# Altium footprint library Capacitors_imp.PCBLIB: 52 footprints (part 2 of 4)
Each footprint in its own frame and in the unit in brackets; x right, y up, seen from the top. Pads: shape width x height; smd on the part's side, far side on the other; paste and mask are expansions set on the pad; w line width, h text height; cw(c..) or ccw(c..) is an arc to the next point about the centre after c.
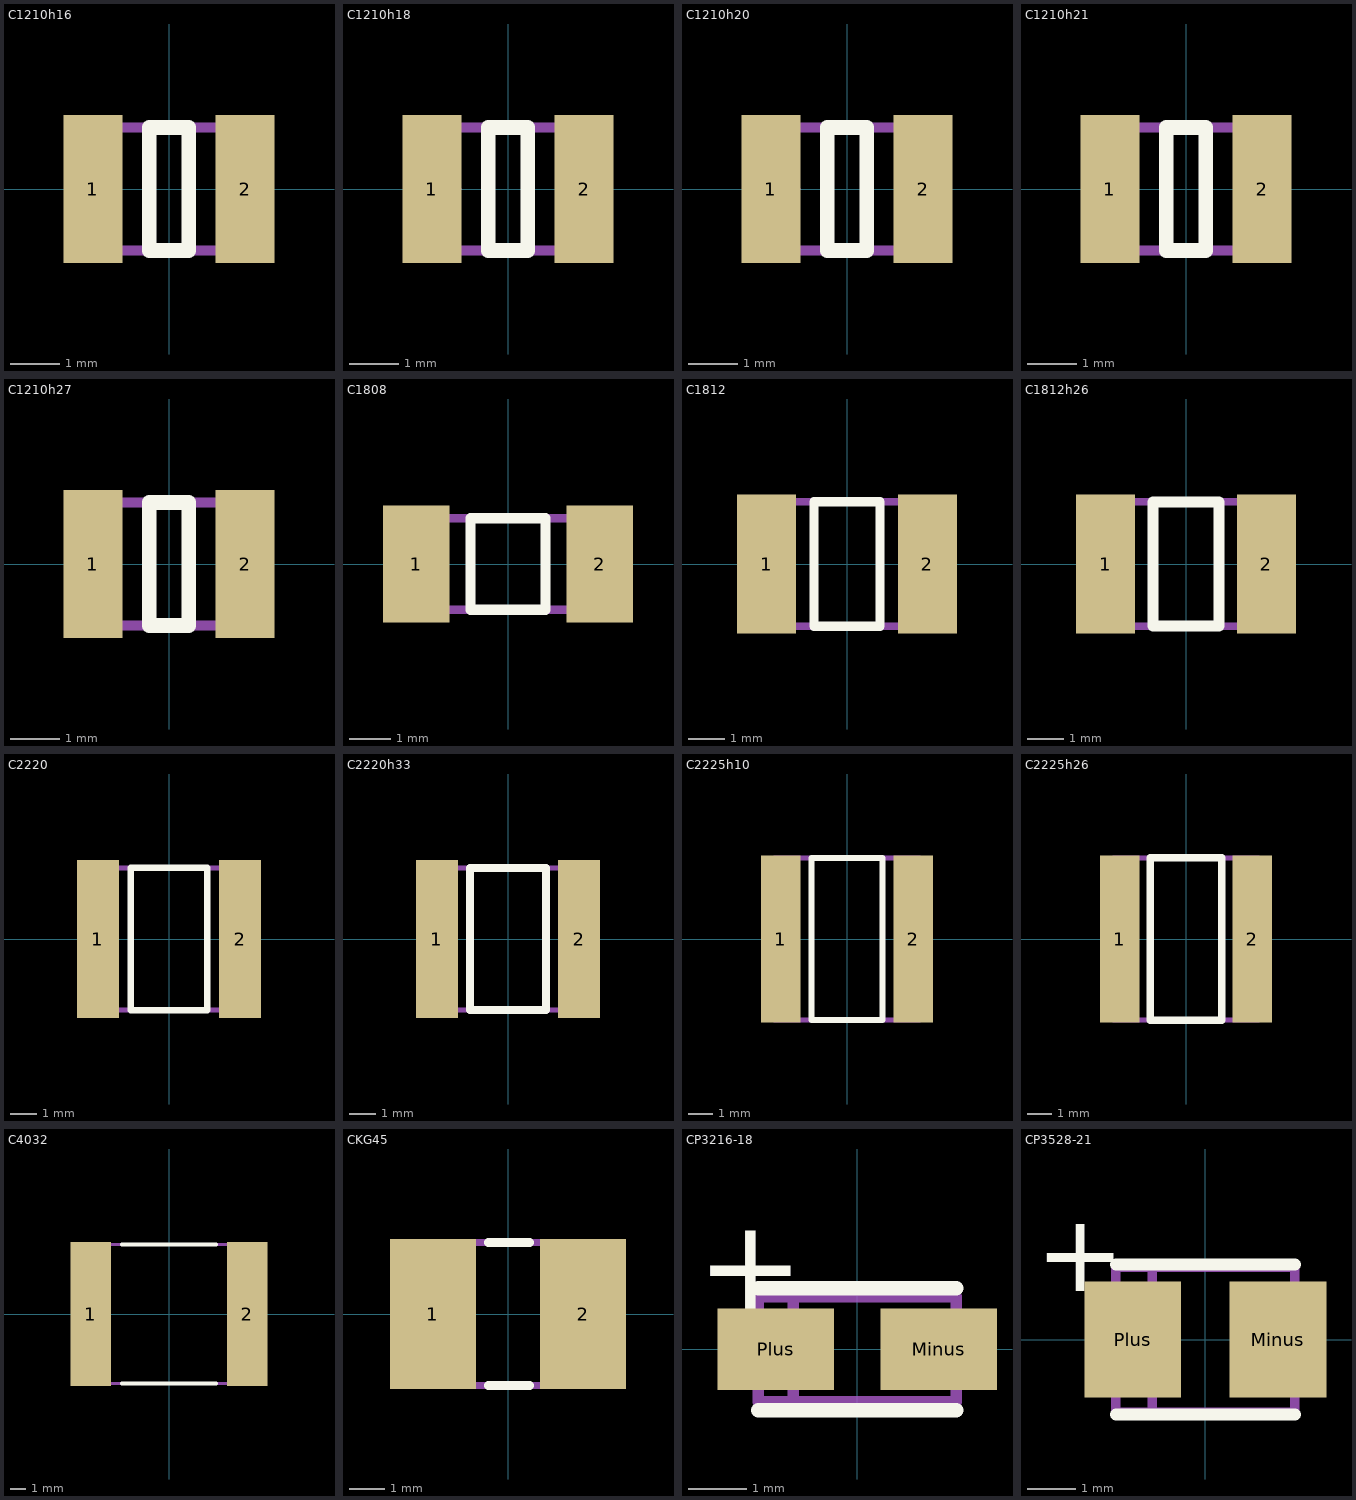
[diagram p1: the footprints below, top view; thin cyan lines are the x and y axes]

## C1210h16 [mm]
height 1.6
pads (2):
  rect 1.2x3 smd: 1(-1.55,0) 2(1.55,0)
Top Overlay:
  lines w0.3: -0.4,-1.25 0.4,-1.25 0.4,1.25 -0.4,1.25 -0.4,-1.25
Mechanical 1:
  circle w0.1: c-1.15,0 r0.1
  lines w0.2: -1.6,-1.25 1.6,-1.25 1.6,1.25 -1.6,1.25 -1.6,-1.25
  text ".Designator" at -1.22,-0.4 h1.5
3D body: height 1.6, standoff 0, extent -1.675,-1.325 1.675,1.325

## C1210h18 [mm]
height 1.8
pads (2):
  rect 1.2x3 smd: 1(-1.55,0) 2(1.55,0)
Top Overlay:
  lines w0.3: -0.4,-1.25 -0.4,1.25 0.4,1.25 0.4,-1.25 -0.4,-1.25
Mechanical 1:
  circle w0.1: c-1.1,0 r0.1
  lines w0.2: -1.6,-1.25 -1.6,1.25 1.6,1.25 1.6,-1.25 -1.6,-1.25
  text ".Designator" at -0.87,-0.4 h1.5
3D body: height 1.8, standoff 0, extent -1.675,-1.325 1.675,1.325

## C1210h20 [mm]
height 2
pads (2):
  rect 1.2x3 smd: 1(-1.55,0) 2(1.55,0)
Top Overlay:
  lines w0.3: -0.4,-1.25 -0.4,1.25 0.4,1.25 0.4,-1.25 -0.4,-1.25
Mechanical 1:
  circle w0.1: c-1.1,0 r0.1
  lines w0.2: -1.6,-1.25 -1.6,1.25 1.6,1.25 1.6,-1.25 -1.6,-1.25
  text ".Designator" at -0.87,-0.4 h1.5
3D body: height 2.1, standoff 0, extent -1.675,-1.325 1.675,1.325

## C1210h21 [mm]
height 2.1
pads (2):
  rect 1.2x3 smd: 1(-1.55,0) 2(1.55,0)
Top Overlay:
  lines w0.3: -0.4,-1.25 0.4,-1.25 0.4,1.25 -0.4,1.25 -0.4,-1.25
Mechanical 1:
  circle w0.1: c-1.15,0 r0.1
  lines w0.2: -1.6,-1.25 1.6,-1.25 1.6,1.25 -1.6,1.25 -1.6,-1.25
  text ".Designator" at -1.22,-0.4 h1.5
3D body: height 2.1, standoff 0, extent -1.675,-1.325 1.675,1.325

## C1210h27 [mm]
height 2.7
pads (2):
  rect 1.2x3 smd: 1(-1.55,0) 2(1.55,0)
Top Overlay:
  lines w0.3: -0.4,-1.25 -0.4,1.25 0.4,1.25 0.4,-1.25 -0.4,-1.25
Mechanical 1:
  circle w0.1: c-1.15,0 r0.1
  lines w0.2: -1.6,-1.25 -1.6,1.25 1.6,1.25 1.6,-1.25 -1.6,-1.25
  text ".Designator" at -1.22,-0.4 h1.5
3D body: height 2.7, standoff 0, extent -1.675,-1.325 1.675,1.325

## C1808 [mm]
height 1.8
pads (2):
  rect 1.6x2.8 smd: 1(-2.2,0) 2(2.2,0)
Top Overlay:
  lines w0.25: -0.9,-1.1 -0.9,1.1 0.9,1.1 0.9,-1.1 -0.9,-1.1
Mechanical 1:
  circle w0.1: c-1.75,0 r0.1
  lines w0.2: -2.3,-1.1 -2.3,1.1 2.3,1.1 2.3,-1.1 -2.3,-1.1
  text ".Designator" at -1.51,-0.35 h1.5
3D body: height 1.7, standoff 0, extent -2.35,-1.1 2.35,1.1

## C1812 [mm]
height 1.8
pads (2):
  rect 1.6x3.8 smd: 1(-2.2,0) 2(2.2,0)
Top Overlay:
  lines w0.25: -0.9,-1.7 0.9,-1.7 0.9,1.7 -0.9,1.7 -0.9,-1.7
Mechanical 1:
  circle w0.1: c-1.6,0 r0.1
  lines w0.2: -2.3,-1.7 2.3,-1.7 2.3,1.7 -2.3,1.7 -2.3,-1.7
  text ".Designator" at -1.06,-0.31 h1.5
3D body: height 1.7, standoff 0, extent -2.35,-1.7 2.35,1.7

## C1812h26 [mm]
height 2.6
pads (2):
  rect 1.6x3.8 smd: 1(-2.2,0) 2(2.2,0)
Top Overlay:
  lines w0.3: -0.9,-1.7 -0.9,1.7 0.9,1.7 0.9,-1.7 -0.9,-1.7
Mechanical 1:
  circle w0.1: c-1.85,0 r0.1
  lines w0.2: -2.3,-1.7 -2.3,1.7 2.3,1.7 2.3,-1.7 -2.3,-1.7
  text ".Designator" at -1.57,-0.4 h1.5
3D body: height 2.6, standoff 0, extent -2.35,-1.7 2.35,1.7

## C2220 [mm]
height 2.6
pads (2):
  rect 1.6x6 smd: 1(-2.7,0) 2(2.7,0)
Top Overlay:
  lines w0.25: -1.45,-2.7 -1.45,2.7 1.45,2.7 1.45,-2.7 -1.45,-2.7
Mechanical 1:
  circle w0.1: c-2.15,0 r0.1
  lines w0.2: -2.95,-2.7 -2.95,2.7 2.95,2.7 2.95,-2.7 -2.95,-2.7
  text ".Designator" at -1.27,-0.33 h1.5
3D body: height 2.6, standoff 0, extent -2.95,-2.6 2.95,2.6

## C2220h33 [mm]
height 3.3
pads (2):
  rect 1.6x6 smd: 1(-2.7,0) 2(2.7,0)
Top Overlay:
  lines w0.3: -1.45,-2.7 -1.45,2.7 1.45,2.7 1.45,-2.7 -1.45,-2.7
Mechanical 1:
  circle w0.1: c-2.4,-0.05 r0.1
  lines w0.2: -2.95,-2.7 -2.95,2.7 2.95,2.7 2.95,-2.7 -2.95,-2.7
  text ".Designator" at -2.12,-0.5 h1.5
3D body: height 3.3, standoff 0, extent -2.95,-2.6 2.95,2.6

## C2225h10 [mm]
height 1
pads (2):
  rect 1.6x6.8 smd: 1(-2.7,0) 2(2.7,0)
Top Overlay:
  lines w0.25: -1.45,-3.3 1.45,-3.3 1.45,3.3 -1.45,3.3 -1.45,-3.3
Mechanical 1:
  circle w0.1: c-2.35,0 r0.1
  lines w0.2: -2.95,-3.3 2.95,-3.3 2.95,3.3 -2.95,3.3 -2.95,-3.3
  text ".Designator" at -1.87,-0.4 h1.5
3D body: height 1, standoff 0, extent -2.95,-3.3 2.95,3.3

## C2225h26 [mm]
height 2.6
pads (2):
  rect 1.6x6.8 smd: 1(-2.7,0) 2(2.7,0)
Top Overlay:
  lines w0.3: -1.45,-3.3 1.45,-3.3 1.45,3.3 -1.45,3.3 -1.45,-3.3
Mechanical 1:
  circle w0.1: c-2.35,0 r0.1
  lines w0.2: -2.95,-3.3 2.95,-3.3 2.95,3.3 -2.95,3.3 -2.95,-3.3
  text ".Designator" at -1.87,-0.4 h1.5
3D body: height 2.6, standoff 0, extent -2.95,-3.3 2.95,3.3

## C4032 [mm]
height 2
pads (2):
  rect 2.6x9.2 smd: 1(-5,0) 2(5,0)
Top Overlay:
  lines w0.25: -3,-4.45 3,-4.45 ; -3,4.45 3,4.45
Mechanical 1:
  circle w0.1: c-4.55,0 r0.1
  lines w0.2: -5.75,-4.45 -5.75,4.45 5.75,4.45 5.75,-4.45 -5.75,-4.45
  text ".Designator" at -2.64,-0.41 h1.5
3D body: height 2, standoff 0, extent -5.75,-4.45 5.75,4.45

## CKG45 [mm]
height 5.5
pads (2):
  rect 2.4x4.2 smd: 1(-2.1,0) 2(2.1,0)
Top Overlay:
  lines w0.25: -0.55,-2 0.6,-2 ; -0.55,2 0.6,2
Mechanical 1:
  circle w0.1: c-1.75,0 r0.1
  lines w0.2: -2.75,-2 2.75,-2 2.75,2 -2.75,2 -2.75,-2
  text ".Designator" at -1.63,-0.35 h1.5
3D body: height 5.5, standoff 0, extent -2.75,-2 2.75,2

## CP3216-18 [mm]
height 1.8
pads (2):
  rect 2x1.4 smd: Minus(1.4,0) Plus(-1.4,0)
Top Overlay:
  lines w0.25: -1.7,-1.05 1.7,-1.05 ; -1.7,1.05 1.7,1.05
  text "+" at -2.75,0.65 h1.61
Mechanical 1:
  lines w0.2: -1.1,-0.9 -1.1,0.9 ; -1.7,-0.9 -1.7,0.9 1.7,0.9 1.7,-0.9 -1.7,-0.9
  text ".Designator" at -1.3,1.18 h1.5
  text "+" at -0.9,-0.45 h1.5
3D body: height 1.9, standoff 0, extent -1.9,-0.9 1.9,0.9

## CP3528-21 [mm]
height 2.1
pads (2):
  rect 2x2.4 smd: Minus(1.5,0) Plus(-1.5,0)
Top Overlay:
  lines w0.25: -1.85,-1.55 1.85,-1.55 ; -1.85,1.55 1.85,1.55
  text "+" at -3.5,1 h1.61
Mechanical 1:
  lines w0.2: -1.1,-1.5 -1.1,1.5 ; -1.85,-1.5 1.85,-1.5 1.85,1.5 -1.85,1.5 -1.85,-1.5
  text "+" at -0.9,-0.45 h1.5
  text ".Designator" at -1.53,1.81 h1.5
3D body: height 2.2, standoff 0, extent -2.05,-1.5 2.05,1.5